# Altium footprint library Components - 10.03.21 - 17.43.PcbLib: 4 footprints
Each footprint in its own frame and in the unit in brackets; x right, y up, seen from the top. Pads: shape width x height; smd on the part's side, far side on the other; paste and mask are expansions set on the pad; w line width, h text height; cw(c..) or ccw(c..) is an arc to the next point about the centre after c.
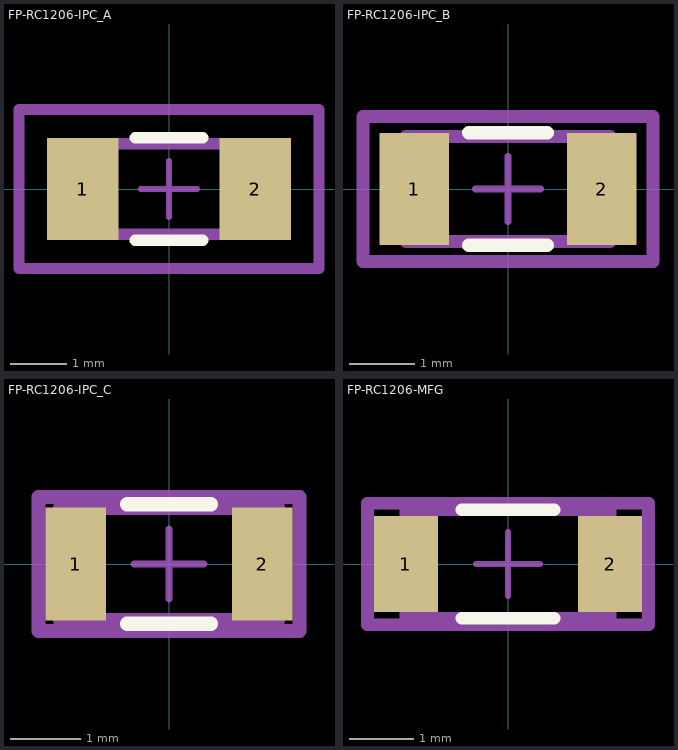
[diagram p0: the footprints below, top view; thin cyan lines are the x and y axes]

## FP-RC1206-IPC_A [mm]
pads (2):
  rect 1.258x1.812 smd paste+0 mask+0: 1(-1.527,0) 2(1.527,0)
Top Overlay:
  lines w0.2: -0.598,-0.906 0.598,-0.906 ; -0.598,0.906 0.598,0.906
Mechanical 5:
  lines w0.2: -2.656,-1.406 2.656,-1.406 2.656,1.406 -2.656,1.406 -2.656,-1.406
  text ".Designator" at 0,0.188 h1
Mechanical 13:
  lines w0.2: -1.55,-0.8 1.55,-0.8 1.55,0.8 -1.55,0.8 -1.55,-0.8
Mechanical 15:
  lines w0.2: -2.656,-1.406 2.656,-1.406 2.656,1.406 -2.656,1.406 -2.656,-1.406
Mechanical 16:
  lines w0.1: -0.5,0 0.5,0 ; 0,-0.5 0,0.5
3D body "Res_YAGEO_RC1206JR-070RL_eec.STEP": height 0.25, standoff 0, extent -2.656,-1.406 2.656,1.406

## FP-RC1206-IPC_B [mm]
pads (2):
  rect 1.058x1.712 smd paste+0 mask+0: 1(-1.427,0) 2(1.427,0)
Top Overlay:
  lines w0.2: -0.598,-0.856 0.598,-0.856 ; -0.598,0.856 0.598,0.856
Mechanical 5:
  lines w0.2: -2.206,-1.106 2.206,-1.106 2.206,1.106 -2.206,1.106 -2.206,-1.106
  text ".Designator" at 0,0.188 h1
Mechanical 13:
  lines w0.2: -1.55,-0.8 1.55,-0.8 1.55,0.8 -1.55,0.8 -1.55,-0.8
Mechanical 15:
  lines w0.2: -2.206,-1.106 2.206,-1.106 2.206,1.106 -2.206,1.106 -2.206,-1.106
Mechanical 16:
  lines w0.1: -0.5,0 0.5,0 ; 0,-0.5 0,0.5
3D body "Res_YAGEO_RC1206JR-070RL_eec.STEP": height 0.25, standoff 0, extent -2.206,-1.106 2.206,1.106

## FP-RC1206-IPC_C [mm]
pads (2):
  rect 0.858x1.612 smd paste+0 mask+0: 1(-1.327,0) 2(1.327,0)
Top Overlay:
  lines w0.2: -0.598,-0.85 0.598,-0.85 ; -0.598,0.85 0.598,0.85
Mechanical 5:
  lines w0.2: -1.856,-0.95 1.856,-0.95 1.856,0.95 -1.856,0.95 -1.856,-0.95
  text ".Designator" at 0,0.188 h1
Mechanical 13:
  lines w0.2: -1.55,-0.8 1.55,-0.8 1.55,0.8 -1.55,0.8 -1.55,-0.8
Mechanical 15:
  lines w0.2: -1.856,-0.95 1.856,-0.95 1.856,0.95 -1.856,0.95 -1.856,-0.95
Mechanical 16:
  lines w0.1: -0.5,0 0.5,0 ; 0,-0.5 0,0.5
3D body "Res_YAGEO_RC1206JR-070RL_eec.STEP": height 0.25, standoff 0, extent -1.856,-0.95 1.856,0.95

## FP-RC1206-MFG [mm]
pads (2):
  rect 1x1.5 smd paste+0 mask+0: 1(-1.6,0) 2(1.6,0)
Top Overlay:
  lines w0.2: -0.725,-0.85 0.725,-0.85 ; -0.725,0.85 0.725,0.85
Mechanical 5:
  lines w0.2: -2.2,-0.95 2.2,-0.95 2.2,0.95 -2.2,0.95 -2.2,-0.95
  text ".Designator" at 0,0.188 h1
Mechanical 13:
  lines w0.2: -1.6,-0.85 1.6,-0.85 1.6,0.85 -1.6,0.85 -1.6,-0.85
Mechanical 15:
  lines w0.2: -2.2,-0.95 2.2,-0.95 2.2,0.95 -2.2,0.95 -2.2,-0.95
Mechanical 16:
  lines w0.1: -0.5,0 0.5,0 ; 0,-0.5 0,0.5
3D body "Res_YAGEO_RC1206JR-070RL_eec.STEP": height 0.25, standoff 0, extent -2.2,-0.95 2.2,0.95